# Altium footprint library Project_Xe_Can_Bang.PcbLib: 7 footprints
Each footprint in its own frame and in the unit in brackets; x right, y up, seen from the top. Pads: shape width x height; smd on the part's side, far side on the other; paste and mask are expansions set on the pad; w line width, h text height; cw(c..) or ccw(c..) is an arc to the next point about the centre after c.
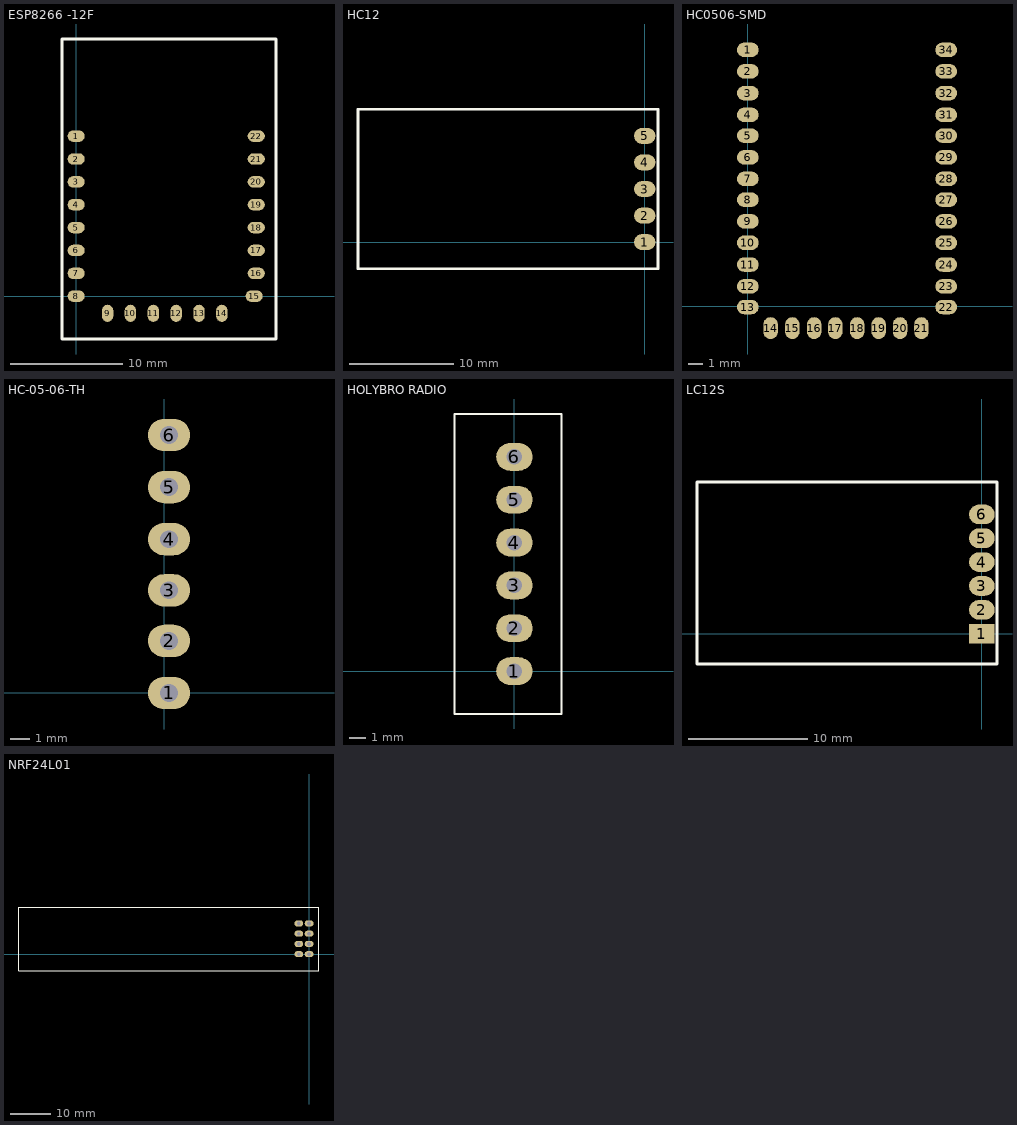
[diagram p0: the footprints below, top view; thin cyan lines are the x and y axes]

## ESP8266 -12F [mil]
pads (22):
  oval 60x40 smd: 1(0,560) 2(0,480) 3(0,400) 4(0,320) 5(0,240) 6(0,160) 7(0,80) 8(0,0) 15(623,0) 16(630.32,80) 17(630.32,160) 18(630.32,240) 19(630.32,320) 20(630.32,400) 21(630.32,480) 22(630.32,560)
  oval 40x60 smd: 9(110,-60) 10(190,-60) 11(270,-60) 12(350,-60) 13(430,-60) 14(510,-60)
Top Overlay:
  lines w10: -50,-150 -50,900 700,900 700,-150 -50,-150
3D body "EPS8266 ESP-12F_1.STEP": height 104.33, standoff -1.38, extent -8.16,-53.63 622.16,891.45

## HC12 [mil]
pads (5):
  oval 80x60 smd: 1(0,0) 2(0,100) 3(0,200) 4(0,300) 5(0,400)
Top Overlay:
  lines w10: -1080,-100 -1050,-100 50,-100 50,500 -1019.68,500 -1050,500 -1080,500 -1080,-100
3D body "HC-12 SI4463 WIRELESS SERIAL MODULE.STEP": height 1019.68, standoff 0, extent -1059.11,-61.81 31.34,461.81

## HC0506-SMD [mil]
pads (34):
  oval 60x40 smd: 1(0,706) 2(0,647) 3(0,587) 4(0,527) 5(0,470) 6(0,410) 7(0,351) 8(0,293.5) 9(0,234) 10(0,175) 11(0,115) 12(0,55) 13(0,-2) 22(545.98,-2) 23(545.98,55) 24(545.98,115) 25(545.98,175) 26(545.98,234) 27(545.98,293.5) 28(545.98,351) 29(545.98,410) 30(545.98,470) 31(545.98,527) 32(545.98,587) 33(545.98,647) 34(545.98,706)
  oval 40x60 smd: 14(62.5,-60) 15(122.5,-60) 16(182.5,-60) 17(241,-60) 18(301,-60) 19(360,-60) 20(419,-60) 21(478,-60)
3D body "Bluetooth HC-06_.STEP": height 92.52, standoff 0, extent -5.98,-72 545.98,1030.75

## HC-05-06-TH [mil]
pads (6):
  oval 85x65 hole 36: 1(10,0) 2(10,105) 3(10,207) 4(10,310) 5(10,415) 6(10,520)
3D body "HC-05.STEP": height 1528.35, standoff -148.16, extent -238,-53.96 19.87,575.96

## HOLYBRO RADIO [mil]
pads (6):
  oval 85x65 hole 36: 1(0,0) 2(0,100) 3(0,200) 4(0,300) 5(0,400) 6(0,500)
Top Overlay:
  lines w5: -140,-100 -140,600 -130,600 100,600 110,600 110,-100 -140,-100
3D body "JST - XH - Thru (V) - 6Pin - 2.54mm.stp": height 284, standoff -118, extent -130,-92 100,592

## LC12S [mil]
pads (6):
  rect 85x65 smd paste+0: 1(0,0)
  oval 85x65 smd: 2(0,78.74) 3(0,157.48) 4(0,236.22) 5(0,314.96) 6(0,393.7)
Top Overlay:
  lines w10: -940,-100 -940,500 -917.32,500 50,500 50,-100 -940,-100
Mechanical 1:
  pour cut-out: -940,560
3D body: height 78.74, standoff 0, extent 60,0 60,0
3D body: height 78.74, standoff 0, extent 60,0 60,0
3D body "LC12S.STEP": height 78.74, standoff 0, extent -917.32,-65 0,474.37

## NRF24L01 [mil]
pads (8):
  oval 86x60 hole 36: 1(0,0) 2(-100,0) 3(0,100) 4(-100,100) 5(0,200) 6(-100,200) 7(0,300) 8(-100,300)
Top Overlay:
  lines w5: -2833,-162 -2833,458 -2823,458 97,458 97,-162 -2833,-162
3D body "NRF24l01_with_antenna.STEP": height 3660.96, standoff -224.41, extent -2828.3,-152.19 85.09,448.21